# EAGLE library part PIC18F25K20 (library libami)
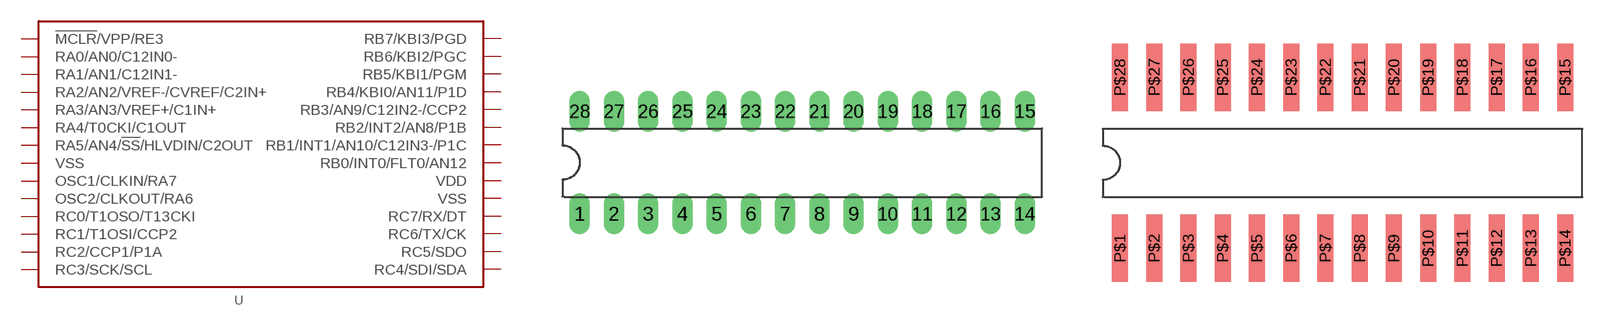
[diagram p3: symbol with the pads of DIL28-3; footprints DIL28-3, DIL28SMT]

Designator prefix -

## PIC18F25K20  [DIL28-3]
1  !MCLR!/VPP/RE3  pwr
2  RA0/AN0/C12IN0-
3  RA1/AN1/C12IN1-
4  RA2/AN2/VREF-/CVREF/C2IN+
5  RA3/AN3/VREF+/C1IN+
6  RA4/T0CKI/C1OUT
7  RA5/AN4/!SS!/HLVDIN/C2OUT
8  VSS  pwr
9  OSC1/CLKIN/RA7
10  OSC2/CLKOUT/RA6
11  RC0/T1OSO/T13CKI
12  RC1/T1OSI/CCP2
13  RC2/CCP1/P1A
14  RC3/SCK/SCL
15  RC4/SDI/SDA
16  RC5/SDO
17  RC6/TX/CK
18  RC7/RX/DT
19  VSS  pwr
20  VDD  pwr
21  RB0/INT0/FLT0/AN12
22  RB1/INT1/AN10/C12IN3-/P1C
23  RB2/INT2/AN8/P1B
24  RB3/AN9/C12IN2-/CCP2
25  RB4/KBI0/AN11/P1D
26  RB5/KBI1/PGM
27  RB6/KBI2/PGC
28  RB7/KBI3/PGD

## PIC18F25K20SMT  [DIL28SMT]
P$1  !MCLR!/VPP/RE3  pwr
P$2  RA0/AN0/C12IN0-
P$3  RA1/AN1/C12IN1-
P$4  RA2/AN2/VREF-/CVREF/C2IN+
P$5  RA3/AN3/VREF+/C1IN+
P$6  RA4/T0CKI/C1OUT
P$7  RA5/AN4/!SS!/HLVDIN/C2OUT
P$8  VSS  pwr
P$9  OSC1/CLKIN/RA7
P$10  OSC2/CLKOUT/RA6
P$11  RC0/T1OSO/T13CKI
P$12  RC1/T1OSI/CCP2
P$13  RC2/CCP1/P1A
P$14  RC3/SCK/SCL
P$15  RC4/SDI/SDA
P$16  RC5/SDO
P$17  RC6/TX/CK
P$18  RC7/RX/DT
P$19  VSS  pwr
P$20  VDD  pwr
P$21  RB0/INT0/FLT0/AN12
P$22  RB1/INT1/AN10/C12IN3-/P1C
P$23  RB2/INT2/AN8/P1B
P$24  RB3/AN9/C12IN2-/CCP2
P$25  RB4/KBI0/AN11/P1D
P$26  RB5/KBI1/PGM
P$27  RB6/KBI2/PGC
P$28  RB7/KBI3/PGD

## Footprint DIL28-3 (pad centres in mm)
Dual In Line package type P
drill 1 long: 1 -16.51,-3.81; 2 -13.97,-3.81; 3 -11.43,-3.81; 4 -8.89,-3.81; 5 -6.35,-3.81; 6 -3.81,-3.81; 7 -1.27,-3.81; 8 1.27,-3.81; 9 3.81,-3.81; 10 6.35,-3.81; 11 8.89,-3.81; 12 11.43,-3.81; 13 13.97,-3.81; 14 16.51,-3.81; 15 16.51,3.81; 16 13.97,3.81; 17 11.43,3.81; 18 8.89,3.81; 19 6.35,3.81; 20 3.81,3.81; 21 1.27,3.81; 22 -1.27,3.81; 23 -3.81,3.81; 24 -6.35,3.81; 25 -8.89,3.81; 26 -11.43,3.81; 27 -13.97,3.81; 28 -16.51,3.81

## Footprint DIL28SMT (pad centres in mm)
smd 1.2 x 5: P$1 -15.24,-6.35; P$2 -12.7,-6.35; P$3 -10.16,-6.35; P$4 -7.62,-6.35; P$5 -5.08,-6.35; P$6 -2.54,-6.35; P$7 0,-6.35; P$8 2.54,-6.35; P$9 5.08,-6.35; P$10 7.62,-6.35; P$11 10.16,-6.35; P$12 12.7,-6.35; P$13 15.24,-6.35; P$14 17.78,-6.35; P$15 17.78,6.35; P$16 15.24,6.35; P$17 12.7,6.35; P$18 10.16,6.35; P$19 7.62,6.35; P$20 5.08,6.35; P$21 2.54,6.35; P$22 0,6.35; P$23 -2.54,6.35; P$24 -5.08,6.35; P$25 -7.62,6.35; P$26 -10.16,6.35; P$27 -12.7,6.35; P$28 -15.24,6.35